# EAGLE library part 691411710008 (library Wurth_Elektronik_Electromechanic_Terminal_Blocks_Connectors_rev15c)
WR-TBL Terminal block - serie 411 5,0mm - Spring clamp/Screw less - Horizontal entry - 08p Code:Con_TBL_Screwless_5.00_6914117100xxB_691411710008 <http://katalog.we-online.de/media/images/eican/Con_TBL_Screwless_5.00_6914117100xxB_pf2.jpg> Details see: http://katalog.we-online.de/en/em/691_411_710_0xx/691_411_710_008B?m Created 2014-12-22, aslant tao 2014 (C) Würth Elektronik
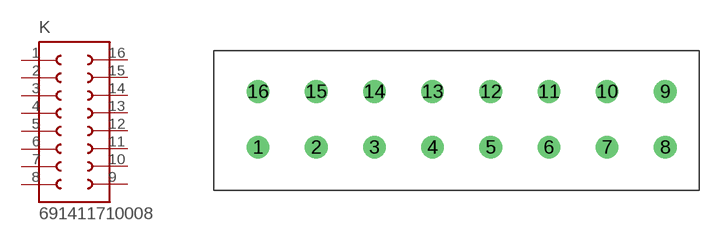
[diagram p307: symbol with the pads of 691411710008; footprint 691411710008]

Designator prefix K

## 691411710008  [691411710008]
1  1  pas
2  2  pas
3  3  pas
4  4  pas
5  5  pas
6  6  pas
7  7  pas
8  8  pas
9  9  pas
10  10  pas
11  11  pas
12  12  pas
13  13  pas
14  14  pas
15  15  pas
16  16  pas

## Footprint 691411710008 (pad centres in mm)
WR-TBL Serie 411 - 5.0mm Screwless Horizontal Entry - 2 mm2 Wires, 8 Pins
drill 1.3: 1 -5,0; 2 0,0; 3 5,0; 4 10,0; 5 15,0; 6 20,0; 7 25,0; 8 30,0; 9 30,4.8; 10 25,4.8; 11 20,4.8; 12 15,4.8; 13 10,4.8; 14 5,4.8; 15 0,4.8; 16 -5,4.8